# Altium footprint library Trans_Diodes_2N7002W-7-F_eec_IPC_C.PcbLib: 1 footprints
Each footprint in its own frame and in the unit in brackets; x right, y up, seen from the top. Pads: shape width x height; smd on the part's side, far side on the other; paste and mask are expansions set on the pad; w line width, h text height; cw(c..) or ccw(c..) is an arc to the next point about the centre after c.
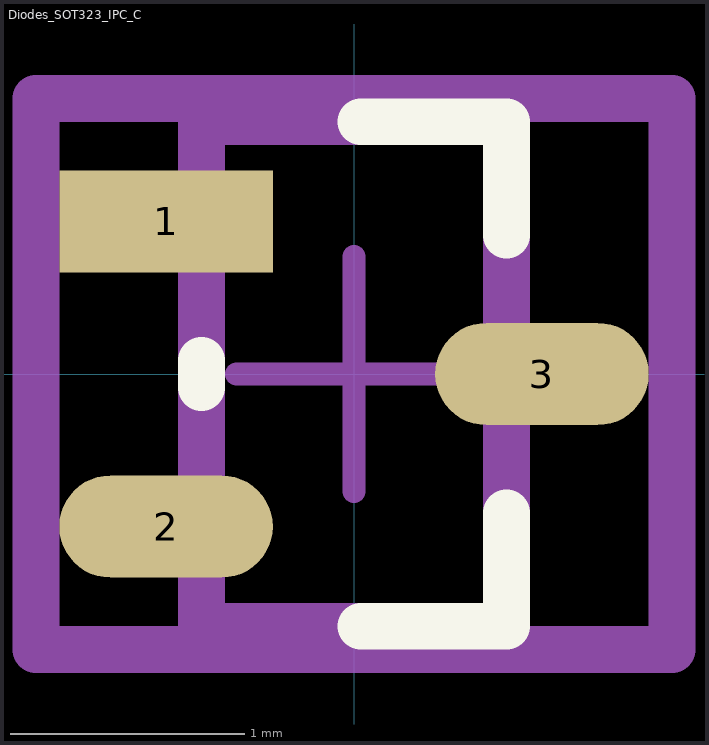
[diagram p0: the footprint, top view; thin cyan lines are the x and y axes]

## Diodes_SOT323_IPC_C [mm]
pads (3):
  rect 0.91x0.436 smd paste+0 mask+0: 1(-0.801,0.65)
  rrect100% 0.91x0.436 smd paste+0 mask+0: 2(-0.801,-0.65) 3(0.801,0)
Top Overlay:
  lines w0.2: -0.65,-0.057 -0.65,0.057 ; 0.029,-1.075 0.65,-1.075 0.65,-0.593 ; 0.029,1.075 0.65,1.075 0.65,0.593
Mechanical 10:
  lines w0.2: -1.356,-1.175 1.356,-1.175 1.356,1.175 -1.356,1.175 -1.356,-1.175
  text ".Designator" at 0,0 h1
Mechanical 12:
  lines w0.2: -0.65,-1.075 0.65,-1.075 0.65,1.075 -0.65,1.075 -0.65,-1.075
Mechanical 15:
  lines w0.1: -0.5,0 0.5,0 ; 0,-0.5 0,0.5
  lines w0.2: -1.356,-1.175 1.356,-1.175 1.356,1.175 -1.356,1.175 -1.356,-1.175
3D body "Trans_Diodes_2N7002W-7-F_eec.STEP": height 0.25, standoff 0, extent -1.356,-1.175 1.356,1.175